# EAGLE library part RJ12 (library RJ Connector)
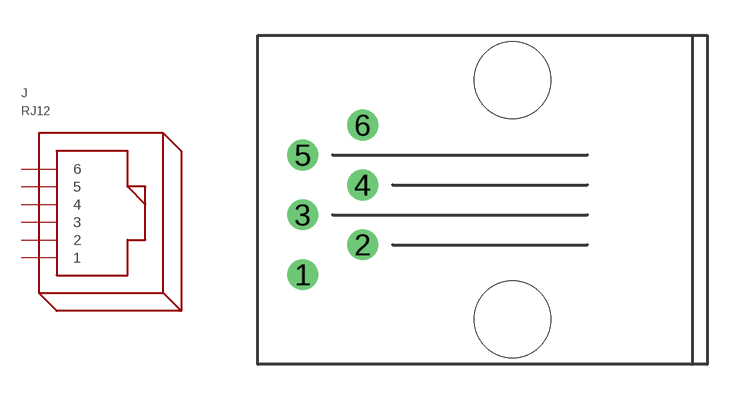
[diagram p0: symbol with the pads of RJ12/14/25; footprint RJ12/14/25]

Designator prefix J

## RJ12  [RJ12/14/25]
1  1
2  2
3  3
4  4
5  5
6  6

## Footprint RJ12/14/25 (pad centres in mm)
RJ12, RJ14, RJ25 RJ12, RJ14 and RJ22 jacks side mounted http://www.tycoelectronics.com
drill 0.8: 1 -8.89,-3.175; 2 -6.35,-1.905; 3 -8.89,-0.635; 4 -6.35,0.635; 5 -8.89,1.905; 6 -6.35,3.175
hole 3.25 at 0,-5.08
hole 3.25 at 0,5.08